# Altium footprint library hsbest3.PcbLib: 363 footprints (part 13 of 23)
Each footprint in its own frame and in the unit in brackets; x right, y up, seen from the top. Pads: shape width x height; smd on the part's side, far side on the other; paste and mask are expansions set on the pad; w line width, h text height; cw(c..) or ccw(c..) is an arc to the next point about the centre after c.
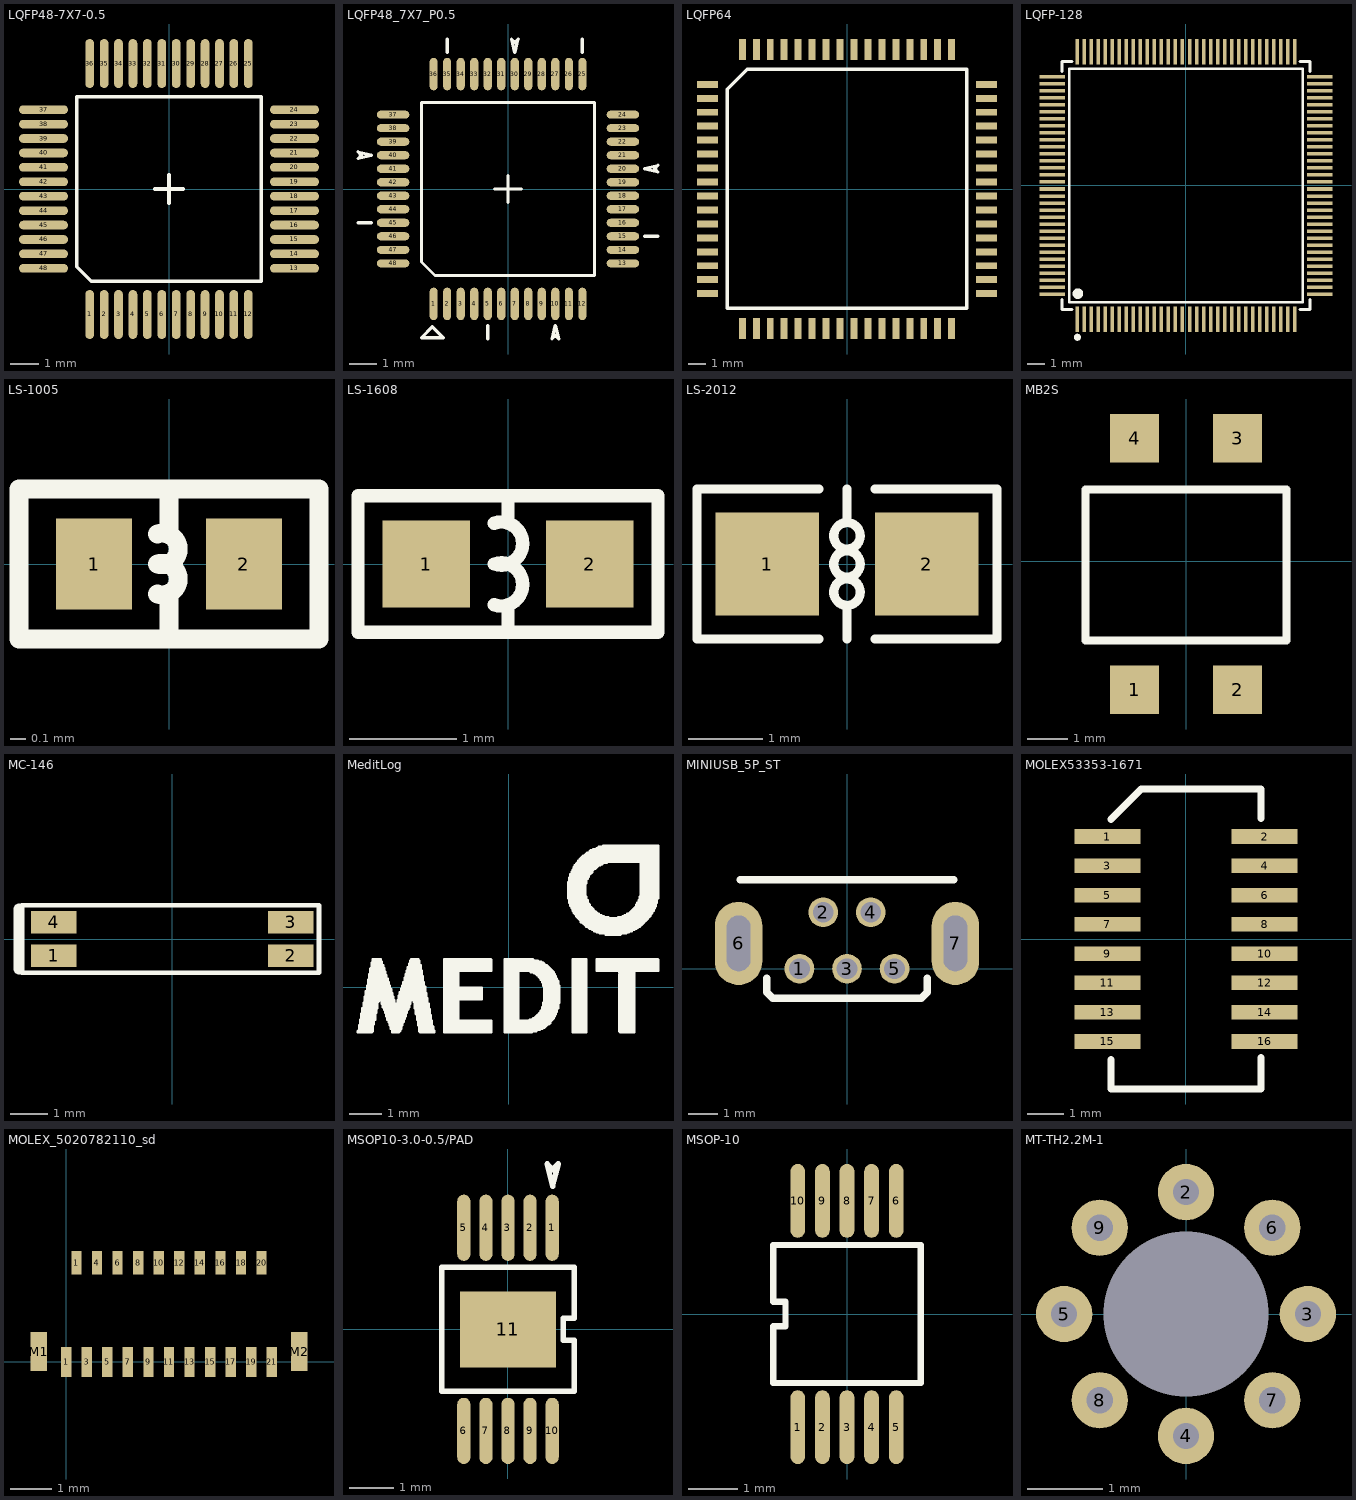
[diagram p12: the footprints below, top view; thin cyan lines are the x and y axes]

## LQFP48-7X7-0.5 [mm]
pads (48):
  oval 0.3x1.7 smd: 1(-2.75,-4.35) 2(-2.25,-4.35) 3(-1.75,-4.35) 4(-1.25,-4.35) 5(-0.75,-4.35) 6(-0.25,-4.35) 7(0.25,-4.35) 8(0.75,-4.35) 9(1.25,-4.35) 10(1.75,-4.35) 11(2.25,-4.35) 12(2.75,-4.35) 25(2.75,4.35) 26(2.25,4.35) 27(1.75,4.35) 28(1.25,4.35) 29(0.75,4.35) 30(0.25,4.35) 31(-0.25,4.35) 32(-0.75,4.35) 33(-1.25,4.35) 34(-1.75,4.35) 35(-2.25,4.35) 36(-2.75,4.35)
  oval 1.7x0.3 smd: 13(4.35,-2.75) 14(4.35,-2.25) 15(4.35,-1.75) 16(4.35,-1.25) 17(4.35,-0.75) 18(4.35,-0.25) 19(4.35,0.25) 20(4.35,0.75) 21(4.35,1.25) 22(4.35,1.75) 23(4.35,2.25) 24(4.35,2.75) 37(-4.35,2.75) 38(-4.35,2.25) 39(-4.35,1.75) 40(-4.35,1.25) 41(-4.35,0.75) 42(-4.35,0.25) 43(-4.35,-0.25) 44(-4.35,-0.75) 45(-4.35,-1.25) 46(-4.35,-1.75) 47(-4.35,-2.25) 48(-4.35,-2.75)
Top Overlay:
  lines w0.125: -0.5,0 0.5,0 ; 0,-0.5 0,0.5 ; -3.2,-2.7 -3.2,3.2 3.2,3.2 3.2,-3.2 -2.7,-3.2 -3.2,-2.7

## LQFP48_7X7_P0.5 [mm]
height 1.2
pads (48):
  oval 0.3x1.2 smd: 1(-2.75,-4.25) 2(-2.25,-4.25) 3(-1.75,-4.25) 4(-1.25,-4.25) 5(-0.75,-4.25) 6(-0.25,-4.25) 7(0.25,-4.25) 8(0.75,-4.25) 9(1.25,-4.25) 10(1.75,-4.25) 11(2.25,-4.25) 12(2.75,-4.25) 25(2.75,4.25) 26(2.25,4.25) 27(1.75,4.25) 28(1.25,4.25) 29(0.75,4.25) 30(0.25,4.25) 31(-0.25,4.25) 32(-0.75,4.25) 33(-1.25,4.25) 34(-1.75,4.25) 35(-2.25,4.25) 36(-2.75,4.25)
  oval 1.2x0.3 smd: 13(4.25,-2.75) 14(4.25,-2.25) 15(4.25,-1.75) 16(4.25,-1.25) 17(4.25,-0.75) 18(4.25,-0.25) 19(4.25,0.25) 20(4.25,0.75) 21(4.25,1.25) 22(4.25,1.75) 23(4.25,2.25) 24(4.25,2.75) 37(-4.25,2.75) 38(-4.25,2.25) 39(-4.25,1.75) 40(-4.25,1.25) 41(-4.25,0.75) 42(-4.25,0.25) 43(-4.25,-0.25) 44(-4.25,-0.75) 45(-4.25,-1.25) 46(-4.25,-1.75) 47(-4.25,-2.25) 48(-4.25,-2.75)
Top Overlay:
  lines w0.12: -5.55,-1.25 -5.05,-1.25 ; -2.25,5.05 -2.25,5.55 ; -0.75,-5.55 -0.75,-5.05 ; -0.5,0 0.5,0 ; 0,-0.5 0,0.5 ; 2.75,5.05 2.75,5.55 ; 5.05,-1.75 5.55,-1.75 ; -5.55,1.125 -5.425,1.25 -5.55,1.375 -5.05,1.25 -5.55,1.125 ; -3.2,-5.5 -2.8,-5.1 -2.4,-5.5 -3.2,-5.5 ; -3.2,-2.7 -2.7,-3.2 3.2,-3.2 3.2,3.2 -3.2,3.2 -3.2,-2.7 ; 0.125,5.55 0.25,5.425 0.375,5.55 0.25,5.05 0.125,5.55 ; 1.625,-5.55 1.75,-5.05 1.875,-5.55 1.75,-5.425 1.625,-5.55 ; 5.05,0.75 5.55,0.625 5.425,0.75 5.55,0.875 5.05,0.75

## LQFP64 [mm]
pads (64):
  rect 1.2x0.4 smd: 1(-8,6) 2(-8,5.2) 3(-8,4.4) 4(-8,3.6) 5(-8,2.8) 6(-8,2) 7(-8,1.2) 8(-8,0.4) 9(-8,-0.4) 10(-8,-1.2) 11(-8,-2) 12(-8,-2.8) 13(-8,-3.6) 14(-8,-4.4) 15(-8,-5.2) 16(-8,-6) 33(8,-6) 34(8,-5.2) 35(8,-4.4) 36(8,-3.6) 37(8,-2.8) 38(8,-2) 39(8,-1.2) 40(8,-0.4) 41(8,0.4) 42(8,1.2) 43(8,2) 44(8,2.8) 45(8,3.6) 46(8,4.4) 47(8,5.2) 48(8,6)
  rect 0.4x1.2 smd: 17(-6,-8) 18(-5.2,-8) 19(-4.4,-8) 20(-3.6,-8) 21(-2.8,-8) 22(-2,-8) 23(-1.2,-8) 24(-0.4,-8) 25(0.4,-8) 26(1.2,-8) 27(2,-8) 28(2.8,-8) 29(3.6,-8) 30(4.4,-8) 31(5.2,-8) 32(6,-8) 49(6,8) 50(5.2,8) 51(4.4,8) 52(3.6,8) 53(2.8,8) 54(2,8) 55(1.2,8) 56(0.4,8) 57(-0.4,8) 58(-1.2,8) 59(-2,8) 60(-2.8,8) 61(-3.6,8) 62(-4.4,8) 63(-5.2,8) 64(-6,8)
Top Overlay:
  lines w0.2: -6.875,-6.85 -6.875,5.725 -5.725,6.875 6.875,6.875 6.875,-6.85 -6.875,-6.85

## LQFP-128 [mm]
pads (128):
  rect 0.2x1.46 smd paste+0 mask+0.051: 1(-6.2,-7.63) 2(-5.8,-7.63) 3(-5.4,-7.63) 4(-5,-7.63) 5(-4.6,-7.63) 6(-4.2,-7.63) 7(-3.8,-7.63) 8(-3.4,-7.63) 9(-3,-7.63) 10(-2.6,-7.63) 11(-2.2,-7.63) 12(-1.8,-7.63) 13(-1.4,-7.63) 14(-1,-7.63) 15(-0.6,-7.63) 16(-0.2,-7.63) 17(0.2,-7.63) 18(0.6,-7.63) 19(1,-7.63) 20(1.4,-7.63) 21(1.8,-7.63) 22(2.2,-7.63) 23(2.6,-7.63) 24(3,-7.63) 25(3.4,-7.63) 26(3.8,-7.63) 27(4.2,-7.63) 28(4.6,-7.63) 29(5,-7.63) 30(5.4,-7.63) 31(5.8,-7.63) 32(6.2,-7.63) 65(6.2,7.63) 66(5.8,7.63) 67(5.4,7.63) 68(5,7.63) 69(4.6,7.63) 70(4.2,7.63) 71(3.8,7.63) 72(3.4,7.63) 73(3,7.63) 74(2.6,7.63) 75(2.2,7.63) 76(1.8,7.63) 77(1.4,7.63) 78(1,7.63) 79(0.6,7.63) 80(0.2,7.63) 81(-0.2,7.63) 82(-0.6,7.63) 83(-1,7.63) 84(-1.4,7.63) 85(-1.8,7.63) 86(-2.2,7.63) 87(-2.6,7.63) 88(-3,7.63) 89(-3.4,7.63) 90(-3.8,7.63) 91(-4.2,7.63) 92(-4.6,7.63) 93(-5,7.63) 94(-5.4,7.63) 95(-5.8,7.63) 96(-6.2,7.63)
  rect 1.46x0.2 smd paste+0 mask+0.051: 33(7.63,-6.2) 34(7.63,-5.8) 35(7.63,-5.4) 36(7.63,-5) 37(7.63,-4.6) 38(7.63,-4.2) 39(7.63,-3.8) 40(7.63,-3.4) 41(7.63,-3) 42(7.63,-2.6) 43(7.63,-2.2) 44(7.63,-1.8) 45(7.63,-1.4) 46(7.63,-1) 47(7.63,-0.6) 48(7.63,-0.2) 49(7.63,0.2) 50(7.63,0.6) 51(7.63,1) 52(7.63,1.4) 53(7.63,1.8) 54(7.63,2.2) 55(7.63,2.6) 56(7.63,3) 57(7.63,3.4) 58(7.63,3.8) 59(7.63,4.2) 60(7.63,4.6) 61(7.63,5) 62(7.63,5.4) 63(7.63,5.8) 64(7.63,6.2) 97(-7.63,6.2) 98(-7.63,5.8) 99(-7.63,5.4) 100(-7.63,5) 101(-7.63,4.6) 102(-7.63,4.2) 103(-7.63,3.8) 104(-7.63,3.4) 105(-7.63,3) 106(-7.63,2.6) 107(-7.63,2.2) 108(-7.63,1.8) 109(-7.63,1.4) 110(-7.63,1) 111(-7.63,0.6) 112(-7.63,0.2) 113(-7.63,-0.2) 114(-7.63,-0.6) 115(-7.63,-1) 116(-7.63,-1.4) 117(-7.63,-1.8) 118(-7.63,-2.2) 119(-7.63,-2.6) 120(-7.63,-3) 121(-7.63,-3.4) 122(-7.63,-3.8) 123(-7.63,-4.2) 124(-7.63,-4.6) 125(-7.63,-5) 126(-7.63,-5.4) 127(-7.63,-5.8) 128(-7.63,-6.2)
Top Overlay:
  circle w0.2: c-6.2,-8.66 r0.1
  circle w0.3: c-6.171,-6.171 r0.15
  lines w0.152: -7.076,-6.503 -7.076,-7.076 -6.503,-7.076 ; -7.076,6.503 -7.076,7.076 -6.503,7.076 ; 6.503,-7.076 7.076,-7.076 7.076,-6.503 ; 6.503,7.076 7.076,7.076 7.076,6.503 ; -6.671,-6.671 -6.671,6.671 6.671,6.671 6.671,-6.671 -6.671,-6.671

## LS-1005 [mil]
pads (2):
  rect 20x24 smd: 1(-19.68,0) 2(19.68,0)
Top Overlay:
  lines w4.92: -3.03,-7.87 ccw(c-1.72,-3.94) -3.03,0 ccw(c-1.72,3.94) -3.03,7.87 ; 0,-19.7 0,-7.88 ; 0,7.88 0,19.7 ; -39.37,-19.68 39.37,-19.68 39.37,19.68 -39.37,19.68 -39.37,-19.68

## LS-1608 [mil]
pads (2):
  rect 32x32 smd: 1(-30,0) 2(30,0)
Top Overlay:
  lines w4.92: -5.01,-15 ccw(c-2.5,-7.5) -5,0 ccw(c-2.5,7.5) -5,15 ; 0,-23.62 0,-15 ; 0,15 0,23.62 ; -55,-25 -55,25 -40,25 55,25 55,-25 -55,-25

## LS-2012 [mil]
pads (2):
  rect 55x55 smd: 1(-42.5,0) 2(42.5,0)
Top Overlay:
  circle w4.92: c0,15 r7.07
  circle w4.92: c0,0 r7.07
  circle w4.92: c0,-15 r7.07
  lines w4.92: -15,-40 -80,-40 -80,40 -15,40 ; 0,-40 0,-25 ; 0,25 0,40 ; 15,-40 80,-40 80,40 15,40

## MB2S [mm]
pads (4):
  rect 1.2x1.2 smd: 1(-1.269,-3.173) 2(1.271,-3.173) 3(1.271,3.027) 4(-1.269,3.027)
Top Overlay:
  lines w0.2: -2.475,-1.961 2.474,-1.961 2.474,1.767 -2.475,1.767 -2.475,-1.961

## MC-146 [mm]
pads (4):
  rect 1.2x0.6 smd: 1(-3.15,-0.45) 2(3.15,-0.45) 3(3.15,0.45) 4(-3.15,0.45)
Top Overlay:
  lines w0.12: -4,-0.9 3.9,-0.9 3.9,0.9 -4,0.9 -4,-0.9
  lines w0.3: -4.075,-0.8 -4.075,0.8

## MeditLog [mm]
Top Overlay:
  drawing of 602 lines, arcs and shapes, not listed

## MINIUSB_5P_ST [mm]
pads (7):
  round 1 hole 0.7: 1(-1.6,0) 2(-0.8,1.9) 3(0,0) 4(0.8,1.9) 5(1.6,0)
  oval 1.6x2.8 hole 0.8 slot 1.88 at 90 deg: 6(-3.65,0.85) 7(3.65,0.85)
Top Overlay:
  lines w0.254: -3.6,3 3.6,3 ; -2.7,-0.325 -2.7,-0.725 -2.7,-0.8 -2.5,-1 ; 2.7,-0.325 2.7,-0.8 2.5,-1 ; -2.5,-1 2.5,-1 ; -2.5,-1 2.5,-1

## MOLEX53353-1671 [mm]
pads (16):
  rect 1.8x0.4 smd: 1(-2.15,2.8) 2(2.15,2.8) 3(-2.15,2) 4(2.15,2) 5(-2.15,1.2) 6(2.15,1.2) 7(-2.15,0.4) 8(2.15,0.4) 9(-2.15,-0.4) 10(2.15,-0.4) 11(-2.15,-1.2) 12(2.15,-1.2) 13(-2.15,-2) 14(2.15,-2) 15(-2.15,-2.8) 16(2.15,-2.8)
Top Overlay:
  lines w0.2: -2.05,-3.3 -2.05,-4.1 2.05,-4.1 2.05,-3.25 ; -2.05,3.275 -1.225,4.1 2.05,4.1 2.05,3.3

## MOLEX_5020782110_sd [mm]
pads (23):
  rect 0.25x0.72 smd: 1(0,0) 3(0.5,0) 5(1,0) 7(1.5,0) 9(2,0) 11(2.5,0) 13(3,0) 15(3.5,0) 17(4,0) 19(4.5,0) 21(5,0)
  rect 0.25x0.57 smd: 1(0.25,2.405) 4(0.75,2.405) 6(1.25,2.405) 8(1.75,2.405) 10(2.25,2.405) 12(2.75,2.405) 14(3.25,2.405) 16(3.75,2.405) 18(4.25,2.405) 20(4.75,2.405)
  rect 0.4x0.95 smd: M1(-0.67,0.25) M2(5.67,0.25)

## MSOP10-3.0-0.5/PAD [mm]
pads (11):
  oval 0.3x1.5 smd: 1(1,2.3) 2(0.5,2.3) 3(0,2.3) 4(-0.5,2.3) 5(-1,2.3) 6(-1,-2.3) 7(-0.5,-2.3) 8(0,-2.3) 9(0.5,-2.3) 10(1,-2.3)
  rect 2.18x1.72 smd: 11(0,0)
Top Overlay:
  lines w0.125: -1.5,-1.4 -1.5,1.4 1.5,1.4 1.5,0.25 1.25,0.25 1.25,-0.25 1.5,-0.25 1.5,-1.4 -1.5,-1.4 ; 0.884,3.743 1.009,3.243 1.134,3.743 1.009,3.618 0.884,3.743

## MSOP-10 [mm]
pads (10):
  oval 0.3x1.5 smd: 1(-1,-2.3) 2(-0.5,-2.3) 3(0,-2.3) 4(0.5,-2.3) 5(1,-2.3) 6(1,2.3) 7(0.5,2.3) 8(0,2.3) 9(-0.5,2.3) 10(-1,2.3)
Top Overlay:
  lines w0.125: -1.5,-1.4 -1.5,-0.25 -1.25,-0.25 -1.25,0.25 -1.5,0.25 -1.5,1.4 1.5,1.4 1.5,-1.4 -1.5,-1.4

## MT-TH2.2M-1 [mm]
pads (9):
  round 0 hole 2.2 unplated: 1(0,0)
  rrect100% 0.75x0.75 hole 0.35: 2(0,1.625) 3(1.625,0) 4(0,-1.625) 5(-1.625,0) 6(1.15,1.15) 7(1.15,-1.15) 8(-1.15,-1.15) 9(-1.15,1.15)